# Altium footprint library Mic.PcbLib: 1 footprints
Each footprint in its own frame and in the unit in brackets; x right, y up, seen from the top. Pads: shape width x height; smd on the part's side, far side on the other; paste and mask are expansions set on the pad; w line width, h text height; cw(c..) or ccw(c..) is an arc to the next point about the centre after c.
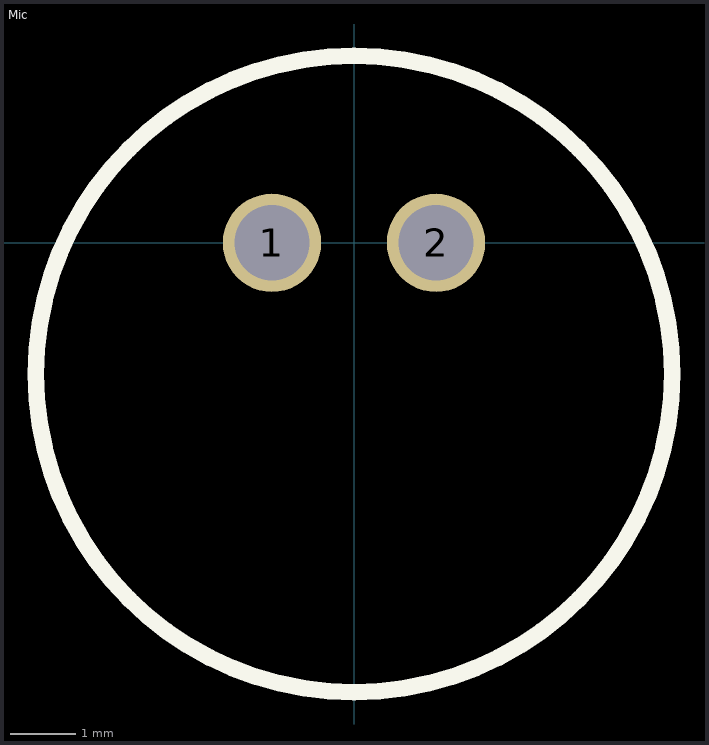
[diagram p0: the footprint, top view; thin cyan lines are the x and y axes]

## Mic [mm]
pads (2):
  round 1.5 hole 1.15: 1(-1.25,0) 2(1.25,0)
Top Overlay:
  circle w0.254: c0,-2 r4.85
3D body: height 5.38, standoff -0.02, extent -4.82,-6.88 4.88,2.82